# Altium footprint library RCU-0C.PcbLib: 1 footprints
Each footprint in its own frame and in the unit in brackets; x right, y up, seen from the top. Pads: shape width x height; smd on the part's side, far side on the other; paste and mask are expansions set on the pad; w line width, h text height; cw(c..) or ccw(c..) is an arc to the next point about the centre after c.
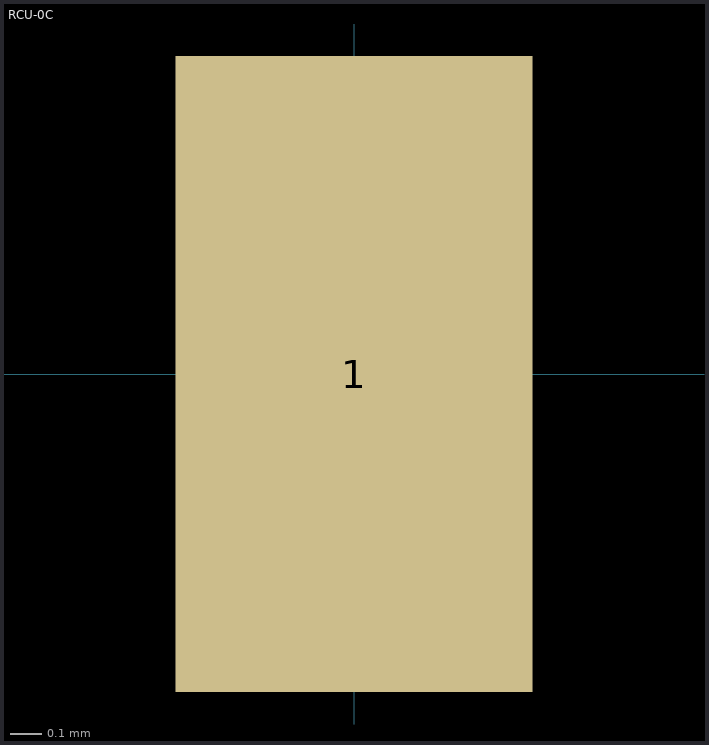
[diagram p0: the footprint, top view; thin cyan lines are the x and y axes]

## RCU-0C [mm]
pads (1):
  rect 1.15x2.05 smd: 1(0,0)
3D body "RCU-0C.STEP": height 1.16, standoff 0.01, extent -0.6,-0.775 0.6,0.825